# Altium integrated library Membrane.IntLib: 1 symbol
Pins are listed as number, name and electrical type; pins without a type are passive.

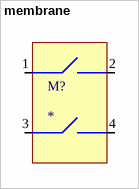
[diagram p0: symbol membrane]

## membrane
designator M?
footprint Membrane
pins: 1, 2, 3, 4